# Altium footprint library DIP-OTHER 0607.pcblib: 24 footprints (part 2 of 2)
Each footprint in its own frame and in the unit in brackets; x right, y up, seen from the top. Pads: shape width x height; smd on the part's side, far side on the other; paste and mask are expansions set on the pad; w line width, h text height; cw(c..) or ccw(c..) is an arc to the next point about the centre after c.
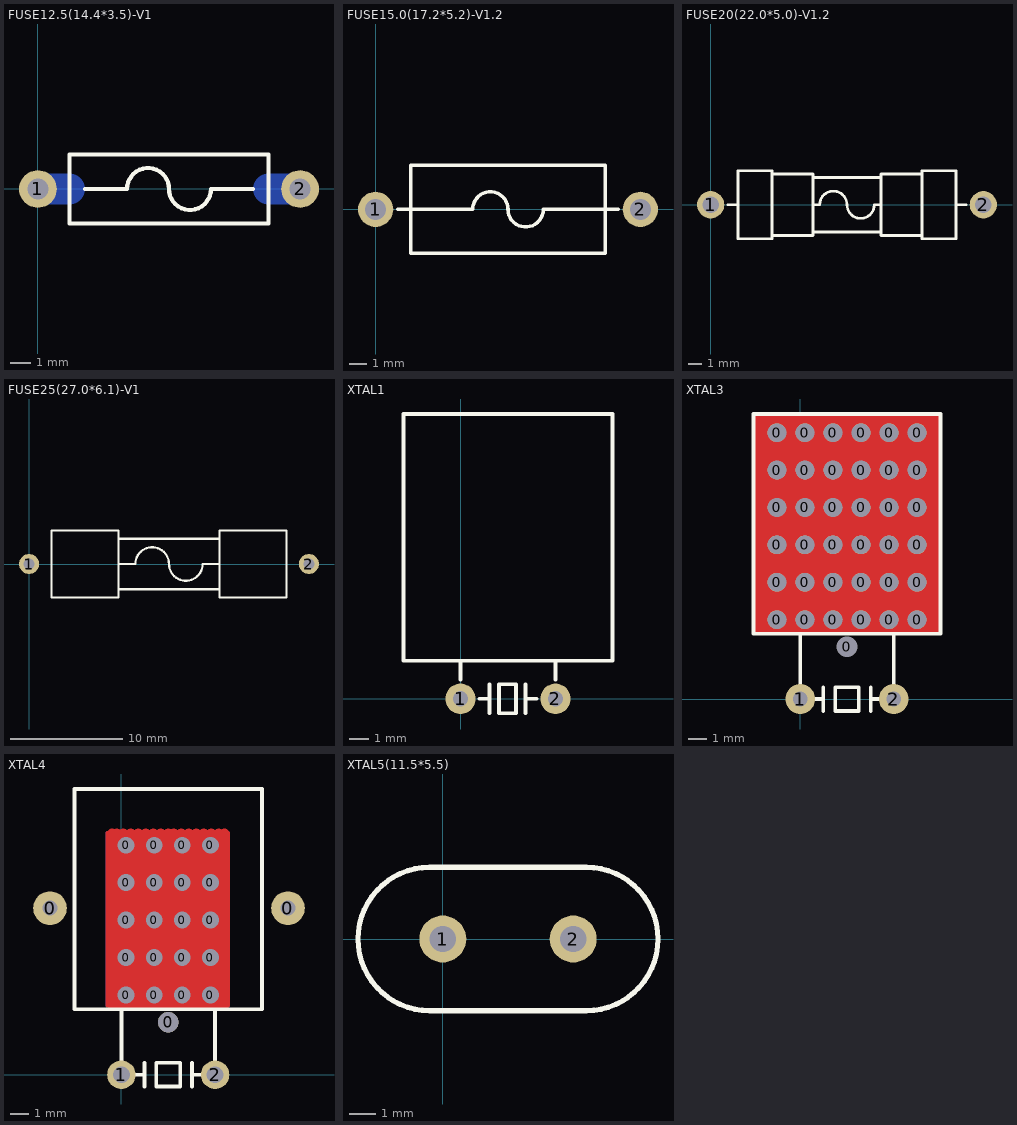
[diagram p1: the footprints below, top view; thin cyan lines are the x and y axes]

## FUSE12.5(14.4*3.5)-V1 [mm]
height 3.3
pads (2):
  round 1.8 hole 1: 1(0,0) 2(12.5,0)
Bottom Layer:
  lines w1.5: 0,0 1.5,0 ; 11,0 12.5,0
Top Overlay:
  lines w0.2: 2.25,0 4.25,0 cw(c5.25,0) 6.25,0 ccw(c7.25,0) 8.25,0 10.25,0 ; 1.5,-1.65 1.5,1.65 11,1.65 11,-1.65 1.5,-1.65
Bottom Solder:
  lines w1: 0,0 1.5,0 ; 11,0 12.5,0

## FUSE15.0(17.2*5.2)-V1.2 [mm]
height 5
pads (2):
  round 2 hole 1.2: 1(0,0) 2(15,0)
Top Overlay:
  lines w0.2: 1.25,0 2,0 5.5,0 cw(c6.5,0) 7.5,0 ccw(c8.5,0) 9.5,0 13,0 13.75,0 ; 2,-2.5 13,-2.5 13,2.5 2,2.5 2,-2.5

## FUSE20(22.0*5.0)-V1.2 [mm]
pads (2):
  round 2 hole 1.2: 1(0,0) 2(20,0)
Top Overlay:
  lines w0.2: 1.25,0 2,0 ; 7.5,0 8,0 cw(c9,0) 10,0 ccw(c11,0) 12,0 12.5,0 ; 18,0 18.75,0 ; 4.5,-2.25 4.5,2.25 ; 4.5,-2.25 7.5,-2.25 7.5,-2 ; 4.5,-2.25 4.5,-2.5 2,-2.5 2,2.5 4.5,2.5 4.5,2.25 ; 4.5,2.25 7.5,2.25 7.5,2 ; 7.5,-2 7.5,2 ; 7.5,-2 12.5,-2 ; 7.5,2 12.5,2 ; 12.5,-2 12.5,2 ; 12.5,-2 12.5,-2.25 15.5,-2.25 ; 12.5,2 12.5,2.25 15.5,2.25 ; 15.5,-2.25 15.5,2.25 ; 15.5,-2.25 15.5,-2.5 18,-2.5 18,2.5 15.5,2.5 15.5,2.25

## FUSE25(27.0*6.1)-V1 [mm]
height 6
pads (2):
  round 1.8 hole 1: 1(0,0) 2(25,0)
Top Overlay:
  lines w0.2: 8,-2.25 17,-2.25 ; 8,0 9.5,0 cw(c11,0) 12.5,0 ccw(c14,0) 15.5,0 17,0 ; 8,2.25 17,2.25 ; 2,-3 2,3 8,3 8,-3 2,-3 ; 17,-3 17,3 23,3 23,-3 17,-3

## XTAL1 [mm]
height 5
pads (2):
  round 1.6 hole 0.8: 1(0,0) 2(5,0)
Top Overlay:
  lines w0.2: 0,1 0,2 ; 1,0 1.524,0 ; 1.524,-0.762 1.524,0.762 ; 3.429,-0.762 3.429,0.762 ; 3.429,0 4,0 ; 5,1 5,2 ; -3,2 -3,15 8,15 8,2 -3,2 ; 2.032,-0.762 2.921,-0.762 2.921,0.762 2.032,0.762 2.032,-0.762

## XTAL3 [mm]
height 5
pads (39):
  round 1 hole 1: 0(-1.25,4.25) 0(-1.25,6.25) 0(-1.25,8.25) 0(-1.25,10.25) 0(-1.25,12.25) 0(-1.25,14.25) 0(0.25,14.25) 0(0.25,4.25) 0(0.25,6.25) 0(0.25,8.25) 0(0.25,10.25) 0(0.25,12.25) 0(1.75,4.25) 0(1.75,6.25) 0(1.75,8.25) 0(1.75,10.25) 0(1.75,12.25) 0(1.75,14.25) 0(3.25,4.25) 0(3.25,6.25) 0(3.25,8.25) 0(3.25,10.25) 0(3.25,12.25) 0(3.25,14.25) 0(4.75,4.25) 0(4.75,6.25) 0(4.75,8.25) 0(4.75,10.25) 0(4.75,12.25) 0(4.75,14.25) 0(6.25,4.25) 0(6.25,6.25) 0(6.25,8.25) 0(6.25,10.25) 0(6.25,12.25) 0(6.25,14.25)
  round 1 hole 1.1 unplated: 0(2.5,2.8)
  round 1.6 hole 0.8: 1(0,0) 2(5,0)
Top Layer:
  rectangle: -2.5,3.5 7.5,15.25
Bottom Layer:
  rectangle: -2.5,3.5 7.5,15.25
Top Overlay:
  lines w0.2: 0,0.75 0,3.5 ; 0.595,0 1.23,0 ; 1.23,-0.635 1.23,0.635 ; 3.77,-0.635 3.77,0.635 ; 3.77,0 4.405,0 ; 5,0.75 5,3.5 ; -2.5,3.5 7.5,3.5 7.5,15.25 -2.5,15.25 -2.5,3.5 ; 1.865,-0.635 3.135,-0.635 3.135,0.635 1.865,0.635 1.865,-0.635
Top Solder:
  rectangle: -2.5,3.5 7.5,15.25
Bottom Solder:
  rectangle: -2.5,3.5 7.5,15.25
Drill Drawing:
  lines w0.2: -1.95,2.25 cw(c-1.95,2.8) -1.95,3.35 6.95,3.35 cw(c6.95,2.8) 6.95,2.25 -1.95,2.25
  text "(1.1X10)" at -3,0.5 h1.2
  text "NPTH" at 4.25,0.5 h1.2

## XTAL4 [mm]
height 5
pads (25):
  round 1.8 hole 0.8: 0(-3.81,8.89) 0(8.89,8.89)
  round 0.8 hole 0.9: 0(0.25,4.25) 0(0.25,6.25) 0(0.25,8.25) 0(0.25,10.25) 0(0.25,12.25) 0(1.75,4.25) 0(1.75,6.25) 0(1.75,8.25) 0(1.75,10.25) 0(1.75,12.25) 0(3.25,4.25) 0(3.25,6.25) 0(3.25,8.25) 0(3.25,10.25) 0(3.25,12.25) 0(4.75,4.25) 0(4.75,6.25) 0(4.75,8.25) 0(4.75,10.25) 0(4.75,12.25)
  round 1.1 hole 1.1 unplated: 0(2.5,2.8)
  round 1.524 hole 0.9: 1(0,0) 2(5,0)
Top Layer:
  lines w0.2: -0.5,3.7 -0.75,3.7 -0.75,11.25 -0.75,12.9 -0.5,12.9 ; -0.5,3.7 -0.25,3.7 ; -0.5,3.7 -0.25,3.7 ; -0.5,3.7 -0.25,3.7 ; -0.5,3.7 -0.25,3.7 ; -0.5,3.7 -0.25,3.7 ; -0.5,3.7 -0.25,3.7 ; -0.5,3.7 -0.25,3.7 ; -0.5,3.7 -0.25,3.7 ; -0.5,3.7 -0.25,3.7 ; -0.5,3.7 -0.25,3.7 ; -0.5,3.7 -0.25,3.7 ; -0.5,3.7 -0.25,3.7 ; -0.5,3.7 -0.25,3.7 ; -0.5,3.7 -0.25,3.7 ; -0.5,3.7 -0.25,3.7 ; -0.5,3.7 -0.25,3.7 ; -0.5,3.7 -0.25,3.7 ; -0.5,3.7 -0.25,3.7 ; -0.5,3.7 -0.25,3.7 ; -0.5,3.7 -0.25,3.7 ; -0.5,3.7 -0.25,3.7 ; -0.5,3.7 -0.25,3.7 ; -0.5,3.7 -0.25,3.7 ; -0.5,3.7 -0.25,3.7 ; -0.5,3.7 -0.25,3.7 ; -0.5,3.7 -0.25,3.7 ; -0.5,3.7 -0.25,3.7 ; -0.5,3.7 -0.25,3.7 ; -0.5,3.7 -0.25,3.7 ; -0.5,3.7 -0.25,3.7 ; -0.5,3.7 -0.25,3.7 ; -0.5,12.9 -0.25,12.9 ; -0.5,12.9 -0.25,12.9 ; -0.5,12.9 -0.25,12.9 ; -0.5,12.9 -0.25,12.9 ; -0.5,12.9 -0.25,12.9 ; -0.5,12.9 -0.25,12.9 ; -0.5,12.9 -0.25,12.9 ; -0.5,12.9 -0.25,12.9 ; -0.5,12.9 -0.25,12.9 ; -0.5,12.9 -0.25,12.9 ; -0.5,12.9 -0.25,12.9 ; -0.5,12.9 -0.25,12.9 ; -0.5,12.9 -0.25,12.9 ; -0.5,12.9 -0.25,12.9 ; -0.5,12.9 -0.25,12.9 ; -0.5,12.9 -0.25,12.9 ; -0.5,12.9 -0.25,12.9 ; -0.5,12.9 -0.25,12.9 ; -0.5,12.9 -0.25,12.9 ; -0.5,12.9 -0.25,12.9 ; -0.5,12.9 -0.25,12.9 ; -0.5,12.9 -0.25,12.9 ; -0.5,12.9 -0.25,12.9 ; -0.5,12.9 -0.25,12.9 ; -0.5,12.9 -0.25,12.9 ; -0.5,12.9 -0.25,12.9 ; -0.5,12.9 -0.25,12.9 ; -0.5,12.9 -0.25,12.9 ; -0.5,12.9 -0.25,12.9 ; -0.5,12.9 -0.25,12.9 ; -0.5,12.9 -0.25,12.9 ; -0.25,3.7 0.1,3.7 ; -0.25,3.7 0.1,3.7 ; -0.25,3.7 0.1,3.7 ; -0.25,3.7 0.1,3.7 ; -0.25,3.7 0.1,3.7 ; -0.25,3.7 0.1,3.7 ; -0.25,3.7 0.1,3.7 ; -0.25,3.7 0.1,3.7 ; -0.25,3.7 0.1,3.7 ; -0.25,3.7 0.1,3.7 ; -0.25,3.7 0.1,3.7 ; -0.25,3.7 0.1,3.7 ; -0.25,3.7 0.1,3.7 ; -0.25,3.7 0.1,3.7 ; -0.25,3.7 0.1,3.7 ; -0.25,3.7 0.1,3.7 ; -0.25,3.7 0.1,3.7 ; -0.25,3.7 0.1,3.7 ; -0.25,3.7 0.1,3.7 ; -0.25,3.7 0.1,3.7 ; -0.25,3.7 0.1,3.7 ; -0.25,3.7 0.1,3.7 ; -0.25,3.7 0.1,3.7 ; -0.25,3.7 0.1,3.7 ; -0.25,3.7 0.1,3.7 ; -0.25,3.7 0.1,3.7 ; -0.25,3.7 0.1,3.7 ; -0.25,3.7 0.1,3.7 ; -0.25,3.7 0.1,3.7 ; -0.25,3.7 0.1,3.7 ; -0.25,3.7 0.1,3.7 ; -0.25,12.9 0.1,12.9 ; -0.25,12.9 0.1,12.9 ; -0.25,12.9 0.1,12.9 ; -0.25,12.9 0.1,12.9 ; -0.25,12.9 0.1,12.9 ; -0.25,12.9 0.1,12.9 ; -0.25,12.9 0.1,12.9 ; -0.25,12.9 0.1,12.9 ; -0.25,12.9 0.1,12.9 ; -0.25,12.9 0.1,12.9 ; -0.25,12.9 0.1,12.9 ; -0.25,12.9 0.1,12.9 ; -0.25,12.9 0.1,12.9 ; -0.25,12.9 0.1,12.9 ; -0.25,12.9 0.1,12.9 ; -0.25,12.9 0.1,12.9 ; -0.25,12.9 0.1,12.9 ; -0.25,12.9 0.1,12.9 ; -0.25,12.9 0.1,12.9 ; -0.25,12.9 0.1,12.9 ; -0.25,12.9 0.1,12.9 ; -0.25,12.9 0.1,12.9 ; -0.25,12.9 0.1,12.9 ; -0.25,12.9 0.1,12.9 ; -0.25,12.9 0.1,12.9 ; -0.25,12.9 0.1,12.9 ; -0.25,12.9 0.1,12.9 ; -0.25,12.9 0.1,12.9 ; -0.25,12.9 0.1,12.9 ; -0.25,12.9 0.1,12.9 ; -0.25,12.9 0.1,12.9 ; 0.1,3.7 0.5,3.7 0.9,3.7 1.3,3.7 1.7,3.7 2.1,3.7 2.5,3.7 ; 0.1,12.9 0.5,12.9 0.9,12.9 1.3,12.9 1.7,12.9 2.1,12.9 2.5,12.9 ; 2.5,3.7 2.8,3.7 ; 2.5,3.7 2.8,3.7 ; 2.5,3.7 2.8,3.7 ; 2.5,3.7 2.8,3.7 ; 2.5,3.7 2.8,3.7 ; 2.5,3.7 2.8,3.7 ; 2.5,3.7 2.8,3.7 ; 2.5,3.7 2.8,3.7 ; 2.5,3.7 2.8,3.7 ; 2.5,12.9 2.8,12.9 ; 2.5,12.9 2.8,12.9 ; 2.5,12.9 2.8,12.9 ; 2.5,12.9 2.8,12.9 ; 2.5,12.9 2.8,12.9 ; 2.5,12.9 2.8,12.9 ; 2.5,12.9 2.8,12.9 ; 2.5,12.9 2.8,12.9 ; 2.5,12.9 2.8,12.9 ; 2.8,3.7 3.2,3.7 3.6,3.7 4,3.7 4.4,3.7 4.8,3.7 5.2,3.7 ; 2.8,12.9 3.2,12.9 3.6,12.9 4,12.9 4.4,12.9 4.8,12.9 5.2,12.9 ; 5.2,3.7 5.5,3.7 ; 5.2,3.7 5.5,3.7 ; 5.2,3.7 5.5,3.7 ; 5.2,3.7 5.5,3.7 ; 5.2,3.7 5.5,3.7 ; 5.2,3.7 5.5,3.7 ; 5.2,3.7 5.5,3.7 ; 5.2,3.7 5.5,3.7 ; 5.2,3.7 5.5,3.7 ; 5.2,3.7 5.5,3.7 ; 5.2,3.7 5.5,3.7 ; 5.2,3.7 5.5,3.7 ; 5.2,3.7 5.5,3.7 ; 5.2,3.7 5.5,3.7 ; 5.2,3.7 5.5,3.7 ; 5.2,3.7 5.5,3.7 ; 5.2,3.7 5.5,3.7 ; 5.2,3.7 5.5,3.7 ; 5.2,3.7 5.5,3.7 ; 5.2,3.7 5.5,3.7 ; 5.2,3.7 5.5,3.7 ; 5.2,3.7 5.5,3.7 ; 5.2,3.7 5.5,3.7 ; 5.2,3.7 5.5,3.7 ; 5.2,12.9 5.5,12.9 ; 5.2,12.9 5.5,12.9 ; 5.2,12.9 5.5,12.9 ; 5.2,12.9 5.5,12.9 ; 5.2,12.9 5.5,12.9 ; 5.2,12.9 5.5,12.9 ; 5.2,12.9 5.5,12.9 ; 5.2,12.9 5.5,12.9 ; 5.2,12.9 5.5,12.9 ; 5.2,12.9 5.5,12.9 ; 5.2,12.9 5.5,12.9 ; 5.2,12.9 5.5,12.9 ; 5.2,12.9 5.5,12.9 ; 5.2,12.9 5.5,12.9 ; 5.2,12.9 5.5,12.9 ; 5.2,12.9 5.5,12.9 ; 5.2,12.9 5.5,12.9 ; 5.2,12.9 5.5,12.9 ; 5.2,12.9 5.5,12.9 ; 5.2,12.9 5.5,12.9 ; 5.2,12.9 5.5,12.9 ; 5.2,12.9 5.5,12.9 ; 5.2,12.9 5.5,12.9 ; 5.2,12.9 5.5,12.9 ; 5.5,3.7 5.7,3.7 ; 5.5,3.7 5.7,3.7 ; 5.5,3.7 5.7,3.7 ; 5.5,3.7 5.7,3.7 ; 5.5,3.7 5.7,3.7 ; 5.5,3.7 5.7,3.7 ; 5.5,3.7 5.7,3.7 ; 5.5,3.7 5.7,3.7 ; 5.5,3.7 5.7,3.7 ; 5.5,3.7 5.7,3.7 ; 5.5,3.7 5.7,3.7 ; 5.5,3.7 5.7,3.7 ; 5.5,3.7 5.7,3.7 ; 5.5,3.7 5.7,3.7 ; 5.5,3.7 5.7,3.7 ; 5.5,3.7 5.7,3.7 ; 5.5,3.7 5.7,3.7 ; 5.5,3.7 5.7,3.7 ; 5.5,3.7 5.7,3.7 ; 5.5,3.7 5.7,3.7 ; 5.5,3.7 5.7,3.7 ; 5.5,3.7 5.7,3.7 ; 5.5,3.7 5.7,3.7 ; 5.5,12.9 5.7,12.9 ; 5.5,12.9 5.7,12.9 ; 5.5,12.9 5.7,12.9 ; 5.5,12.9 5.7,12.9 ; 5.5,12.9 5.7,12.9 ; 5.5,12.9 5.7,12.9 ; 5.5,12.9 5.7,12.9 ; 5.5,12.9 5.7,12.9 ; 5.5,12.9 5.7,12.9 ; 5.5,12.9 5.7,12.9 ; 5.5,12.9 5.7,12.9 ; 5.5,12.9 5.7,12.9 ; 5.5,12.9 5.7,12.9 ; 5.5,12.9 5.7,12.9 ; 5.5,12.9 5.7,12.9 ; 5.5,12.9 5.7,12.9 ; 5.5,12.9 5.7,12.9 ; 5.5,12.9 5.7,12.9 ; 5.5,12.9 5.7,12.9 ; 5.5,12.9 5.7,12.9 ; 5.5,12.9 5.7,12.9 ; 5.5,12.9 5.7,12.9 ; 5.5,12.9 5.7,12.9 ; 5.7,3.7 5.7,11.25 5.7,12.9
  lines w0.5: -0.5,3.7 -0.5,4 ; -0.5,3.7 -0.5,4 ; -0.5,3.7 -0.5,4 ; -0.5,3.7 -0.5,4 ; -0.5,3.7 -0.5,4 ; -0.5,4 -0.5,11.25 -0.5,12.75 ; -0.5,12.75 -0.5,12.9 ; -0.5,12.75 -0.5,12.9 ; -0.5,12.75 -0.5,12.9 ; -0.5,12.75 -0.5,12.9 ; -0.5,12.75 -0.5,12.9 ; -0.25,3.7 -0.25,4 ; -0.25,3.7 -0.25,4 ; -0.25,3.7 -0.25,4 ; -0.25,3.7 -0.25,4 ; -0.25,3.7 -0.25,4 ; -0.25,3.7 -0.25,4 ; -0.25,3.7 -0.25,4 ; -0.25,3.7 -0.25,4 ; -0.25,3.7 -0.25,4 ; -0.25,3.7 -0.25,4 ; -0.25,3.7 -0.25,4 ; -0.25,3.7 -0.25,4 ; -0.25,3.7 -0.25,4 ; -0.25,3.7 -0.25,4 ; -0.25,3.7 -0.25,4 ; -0.25,3.7 -0.25,4 ; -0.25,4 -0.25,4.25 -0.25,6.25 -0.25,8.25 -0.25,10.25 -0.25,11.25 -0.25,12.25 ; -0.25,12.25 -0.25,12.5 ; -0.25,12.25 -0.25,12.5 ; -0.25,12.25 -0.25,12.5 ; -0.25,12.25 -0.25,12.5 ; -0.25,12.25 -0.25,12.75 ; -0.25,12.5 -0.25,12.75 ; -0.25,12.5 -0.25,12.75 ; -0.25,12.5 -0.25,12.75 ; -0.25,12.5 -0.25,12.75 ; -0.25,12.5 -0.25,12.75 ; -0.25,12.5 -0.25,12.75 ; -0.25,12.5 -0.25,12.75 ; -0.25,12.5 -0.25,12.75 ; -0.25,12.5 -0.25,12.75 ; -0.25,12.5 -0.25,12.75 ; -0.25,12.5 -0.25,12.75 ; -0.25,12.5 -0.25,12.75 ; -0.25,12.5 -0.25,12.75 ; -0.25,12.5 -0.25,12.75 ; -0.25,12.5 -0.25,12.75 ; -0.25,12.75 -0.25,12.9 ; -0.25,12.75 -0.25,12.9 ; -0.25,12.75 -0.25,12.9 ; -0.25,12.75 -0.25,12.9 ; -0.25,12.75 -0.25,12.9 ; -0.25,12.75 -0.25,12.9 ; -0.25,12.75 -0.25,12.9 ; -0.25,12.75 -0.25,12.9 ; -0.25,12.75 -0.25,12.9 ; -0.25,12.75 -0.25,12.9 ; -0.25,12.75 -0.25,12.9 ; -0.25,12.75 -0.25,12.9 ; -0.25,12.75 -0.25,12.9 ; -0.25,12.75 -0.25,12.9 ; -0.25,12.75 -0.25,12.9 ; -0.25,12.75 -0.25,12.9 ; 0.1,3.7 0.1,3.9 ; 0.1,3.7 0.1,3.9 ; 0.1,3.7 0.1,3.9 ; 0.1,3.7 0.1,3.9 ; 0.1,3.7 0.1,3.9 ; 0.1,3.9 0.1,6.25 0.1,8.25 0.1,10.25 0.1,11.25 0.1,12.7 ; 0.1,12.7 0.1,12.9 ; 0.1,12.7 0.1,12.9 ; 0.1,12.7 0.1,12.9 ; 0.1,12.7 0.1,12.9 ; 0.1,12.7 0.1,12.9 ; 0.5,3.7 0.5,3.9 ; 0.5,3.7 0.5,3.9 ; 0.5,3.7 0.5,3.9 ; 0.5,3.7 0.5,3.9 ; 0.5,3.7 0.5,3.9 ; 0.5,3.9 0.5,6.25 0.5,8.25 0.5,10.25 0.5,11.25 0.5,12.25 ; 0.5,12.25 0.5,12.45 ; 0.5,12.25 0.5,12.45 ; 0.5,12.25 0.5,12.45 ; 0.5,12.25 0.5,12.7 ; 0.5,12.5 0.5,12.7 ; 0.5,12.5 0.5,12.7 ; 0.5,12.5 0.5,12.7 ; 0.5,12.5 0.5,12.7 ; 0.5,12.5 0.5,12.7 ; 0.5,12.5 0.5,12.7 ; 0.5,12.5 0.5,12.7 ; 0.5,12.5 0.5,12.7 ; 0.5,12.5 0.5,12.7 ; 0.5,12.5 0.5,12.7 ; 0.5,12.5 0.5,12.7 ; 0.5,12.7 0.5,12.9 ; 0.5,12.7 0.5,12.9 ; 0.5,12.7 0.5,12.9 ; 0.5,12.7 0.5,12.9 ; 0.5,12.7 0.5,12.9 ; 0.5,12.7 0.5,12.9 ; 0.5,12.7 0.5,12.9 ; 0.5,12.7 0.5,12.9 ; 0.5,12.7 0.5,12.9 ; 0.5,12.7 0.5,12.9 ; 0.5,12.7 0.5,12.9 ; 0.5,12.7 0.5,12.9 ; 0.9,3.7 0.9,3.9 ; 0.9,3.7 0.9,3.9 ; 0.9,3.7 0.9,3.9 ; 0.9,3.7 0.9,3.9 ; 0.9,3.7 0.9,3.9 ; 0.9,3.7 0.9,3.9 ; 0.9,3.7 0.9,3.9 ; 0.9,3.7 0.9,3.9 ; 0.9,3.7 0.9,3.9 ; 0.9,3.7 0.9,3.9 ; 0.9,3.7 0.9,3.9 ; 0.9,3.7 0.9,3.9 ; 0.9,3.7 0.9,3.9 ; 0.9,3.7 0.9,3.9 ; 0.9,3.7 0.9,3.9 ; 0.9,3.7 0.9,3.9 ; 0.9,3.9 0.9,4 ; 0.9,3.9 0.9,4 ; 0.9,3.9 0.9,4 ; 0.9,3.9 0.9,4 ; 0.9,3.9 0.9,4 ; 0.9,3.9 0.9,4 ; 0.9,3.9 0.9,4 ; 0.9,3.9 0.9,4 ; 0.9,3.9 0.9,4 ; 0.9,3.9 0.9,4 ; 0.9,3.9 0.9,4 ; 0.9,3.9 0.9,4 ; 0.9,3.9 0.9,4 ; 0.9,3.9 0.9,4 ; 0.9,3.9 0.9,4 ; 0.9,3.9 0.9,4.25 ; 0.9,4.15 0.9,4.25 ; 0.9,4.15 0.9,4.25 ; 0.9,4.15 0.9,4.25 ; 0.9,4.15 0.9,4.25 ; 0.9,4.25 0.9,6.25 0.9,8.25 0.9,10.25 0.9,11.25 0.9,12.25 ; 0.9,12.25 0.9,12.45 ; 0.9,12.25 0.9,12.45 ; 0.9,12.25 0.9,12.45 ; 0.9,12.25 0.9,12.45 ; 0.9,12.25 0.9,12.7 ; 0.9,12.5 0.9,12.7 ; 0.9,12.5 0.9,12.7 ; 0.9,12.5 0.9,12.7 ; 0.9,12.5 0.9,12.7 ; 0.9,12.5 0.9,12.7 ; 0.9,12.5 0.9,12.7 ; 0.9,12.5 0.9,12.7 ; 0.9,12.5 0.9,12.7 ; 0.9,12.5 0.9,12.7 ; 0.9,12.5 0.9,12.7 ; 0.9,12.5 0.9,12.7 ; 0.9,12.5 0.9,12.7 ; 0.9,12.5 0.9,12.7 ; 0.9,12.5 0.9,12.7 ; 0.9,12.5 0.9,12.7 ; 0.9,12.7 0.9,12.9 ; 0.9,12.7 0.9,12.9 ; 0.9,12.7 0.9,12.9 ; 0.9,12.7 0.9,12.9 ; 0.9,12.7 0.9,12.9 ; 0.9,12.7 0.9,12.9 ; 0.9,12.7 0.9,12.9 ; 0.9,12.7 0.9,12.9 ; 0.9,12.7 0.9,12.9 ; 0.9,12.7 0.9,12.9 ; 0.9,12.7 0.9,12.9 ; 0.9,12.7 0.9,12.9 ; 0.9,12.7 0.9,12.9 ; 0.9,12.7 0.9,12.9 ; 0.9,12.7 0.9,12.9 ; 0.9,12.7 0.9,12.9 ; 1.3,3.7 1.3,3.9 ; 1.3,3.7 1.3,3.9 ; 1.3,3.7 1.3,3.9 ; 1.3,3.7 1.3,3.9 ; 1.3,3.7 1.3,3.9 ; 1.3,3.7 1.3,3.9 ; 1.3,3.7 1.3,3.9 ; 1.3,3.7 1.3,3.9 ; 1.3,3.7 1.3,3.9 ; 1.3,3.7 1.3,3.9 ; 1.3,3.7 1.3,3.9 ; 1.3,3.7 1.3,3.9 ; 1.3,3.7 1.3,3.9 ; 1.3,3.7 1.3,3.9 ; 1.3,3.7 1.3,3.9 ; 1.3,3.7 1.3,3.9 ; 1.3,3.9 1.3,4 ; 1.3,3.9 1.3,4 ; 1.3,3.9 1.3,4 ; 1.3,3.9 1.3,4 ; 1.3,3.9 1.3,4 ; 1.3,3.9 1.3,4 ; 1.3,3.9 1.3,4 ; 1.3,3.9 1.3,4 ; 1.3,3.9 1.3,4 ; 1.3,3.9 1.3,4 ; 1.3,3.9 1.3,4 ; 1.3,3.9 1.3,4 ; 1.3,3.9 1.3,4 ; 1.3,3.9 1.3,4 ; 1.3,3.9 1.3,4 ; 1.3,3.9 1.3,4.25 ; 1.3,4.15 1.3,4.25 ; 1.3,4.15 1.3,4.25 ; 1.3,4.15 1.3,4.25 ; 1.3,4.15 1.3,4.25 ; 1.3,4.25 1.3,6.25 1.3,8.25 1.3,10.25 1.3,11.25 1.3,12.25 ; 1.3,12.25 1.3,12.45 ; 1.3,12.25 1.3,12.45 ; 1.3,12.25 1.3,12.45 ; 1.3,12.25 1.3,12.45 ; 1.3,12.25 1.3,12.7 ; 1.3,12.5 1.3,12.7 ; 1.3,12.5 1.3,12.7 ; 1.3,12.5 1.3,12.7 ; 1.3,12.5 1.3,12.7 ; 1.3,12.5 1.3,12.7 ; 1.3,12.5 1.3,12.7 ; 1.3,12.5 1.3,12.7 ; 1.3,12.5 1.3,12.7 ; 1.3,12.5 1.3,12.7 ; 1.3,12.5 1.3,12.7 ; 1.3,12.5 1.3,12.7 ; 1.3,12.5 1.3,12.7 ; 1.3,12.5 1.3,12.7 ; 1.3,12.5 1.3,12.7 ; 1.3,12.5 1.3,12.7 ; 1.3,12.7 1.3,12.9 ; 1.3,12.7 1.3,12.9 ; 1.3,12.7 1.3,12.9 ; 1.3,12.7 1.3,12.9 ; 1.3,12.7 1.3,12.9 ; 1.3,12.7 1.3,12.9 ; 1.3,12.7 1.3,12.9 ; 1.3,12.7 1.3,12.9 ; 1.3,12.7 1.3,12.9 ; 1.3,12.7 1.3,12.9 ; 1.3,12.7 1.3,12.9 ; 1.3,12.7 1.3,12.9 ; 1.3,12.7 1.3,12.9 ; 1.3,12.7 1.3,12.9 ; 1.3,12.7 1.3,12.9 ; 1.3,12.7 1.3,12.9 ; 1.7,3.7 1.7,3.9 ; 1.7,3.7 1.7,3.9 ; 1.7,3.7 1.7,3.9 ; 1.7,3.7 1.7,3.9 ; 1.7,3.7 1.7,3.9 ; 1.7,3.9 1.7,6.25 1.7,8.25 1.7,10.25 1.7,11.25 1.7,12.7 ; 1.7,12.7 1.7,12.9 ; 1.7,12.7 1.7,12.9 ; 1.7,12.7 1.7,12.9 ; 1.7,12.7 1.7,12.9 ; 1.7,12.7 1.7,12.9 ; 2.1,3.7 2.1,3.9 ; 2.1,3.7 2.1,3.9 ; 2.1,3.7 2.1,3.9 ; 2.1,3.7 2.1,3.9 ; 2.1,3.7 2.1,3.9 ; 2.1,3.9 2.1,6.25 2.1,8.25 2.1,10.25 2.1,11.25 2.1,12.25 ; 2.1,12.25 2.1,12.45 ; 2.1,12.25 2.1,12.45 ; 2.1,12.25 2.1,12.45 ; 2.1,12.25 2.1,12.45 ; 2.1,12.25 2.1,12.7 ; 2.1,12.5 2.1,12.7 ; 2.1,12.5 2.1,12.7 ; 2.1,12.5 2.1,12.7 ; 2.1,12.5 2.1,12.7 ; 2.1,12.5 2.1,12.7 ; 2.1,12.5 2.1,12.7 ; 2.1,12.5 2.1,12.7 ; 2.1,12.5 2.1,12.7 ; 2.1,12.5 2.1,12.7 ; 2.1,12.5 2.1,12.7 ; 2.1,12.5 2.1,12.7 ; 2.1,12.5 2.1,12.7 ; 2.1,12.5 2.1,12.7 ; 2.1,12.5 2.1,12.7 ; 2.1,12.5 2.1,12.7 ; 2.1,12.7 2.1,12.9 ; 2.1,12.7 2.1,12.9 ; 2.1,12.7 2.1,12.9 ; 2.1,12.7 2.1,12.9 ; 2.1,12.7 2.1,12.9 ; 2.1,12.7 2.1,12.9 ; 2.1,12.7 2.1,12.9 ; 2.1,12.7 2.1,12.9 ; 2.1,12.7 2.1,12.9 ; 2.1,12.7 2.1,12.9 ; 2.1,12.7 2.1,12.9 ; 2.1,12.7 2.1,12.9 ; 2.1,12.7 2.1,12.9 ; 2.1,12.7 2.1,12.9 ; 2.1,12.7 2.1,12.9 ; 2.1,12.7 2.1,12.9 ; 2.5,3.7 2.5,3.9 ; 2.5,3.7 2.5,3.9 ; 2.5,3.7 2.5,3.9 ; 2.5,3.7 2.5,3.9 ; 2.5,3.7 2.5,3.9 ; 2.5,3.9 2.5,11.25 2.5,12.7 ; 2.5,12.7 2.5,12.9 ; 2.5,12.7 2.5,12.9 ; 2.5,12.7 2.5,12.9 ; 2.5,12.7 2.5,12.9 ; 2.5,12.7 2.5,12.9 ; 2.8,3.7 2.8,3.9 ; 2.8,3.7 2.8,3.9 ; 2.8,3.7 2.8,3.9 ; 2.8,3.7 2.8,3.9 ; 2.8,3.7 2.8,3.9 ; 2.8,3.7 2.8,3.9 ; 2.8,3.7 2.8,3.9 ; 2.8,3.7 2.8,3.9 ; 2.8,3.7 2.8,3.9 ; 2.8,3.7 2.8,3.9 ; 2.8,3.7 2.8,3.9 ; 2.8,3.7 2.8,3.9 ; 2.8,3.7 2.8,3.9 ; 2.8,3.7 2.8,3.9 ; 2.8,3.7 2.8,3.9 ; 2.8,3.7 2.8,3.9 ; 2.8,3.9 2.8,4 ; 2.8,3.9 2.8,4 ; 2.8,3.9 2.8,4 ; 2.8,3.9 2.8,4 ; 2.8,3.9 2.8,4 ; 2.8,3.9 2.8,4 ; 2.8,3.9 2.8,4 ; 2.8,3.9 2.8,4 ; 2.8,3.9 2.8,4 ; 2.8,3.9 2.8,4 ; 2.8,3.9 2.8,4 ; 2.8,3.9 2.8,4 ; 2.8,3.9 2.8,4 ; 2.8,3.9 2.8,4 ; 2.8,3.9 2.8,4 ; 2.8,3.9 2.8,4.25 ; 2.8,4.15 2.8,4.25 ; 2.8,4.15 2.8,4.25 ; 2.8,4.15 2.8,4.25 ; 2.8,4.15 2.8,4.25 ; 2.8,4.25 2.8,6.25 2.8,8.25 2.8,10.25 2.8,11.25 2.8,12.25 ; 2.8,12.25 2.8,12.45 ; 2.8,12.25 2.8,12.45 ; 2.8,12.25 2.8,12.45 ; 2.8,12.25 2.8,12.45 ; 2.8,12.25 2.8,12.7 ; 2.8,12.5 2.8,12.7 ; 2.8,12.5 2.8,12.7 ; 2.8,12.5 2.8,12.7 ; 2.8,12.5 2.8,12.7 ; 2.8,12.5 2.8,12.7 ; 2.8,12.5 2.8,12.7 ; 2.8,12.5 2.8,12.7 ; 2.8,12.5 2.8,12.7 ; 2.8,12.5 2.8,12.7 ; 2.8,12.5 2.8,12.7 ; 2.8,12.5 2.8,12.7 ; 2.8,12.5 2.8,12.7 ; 2.8,12.5 2.8,12.7 ; 2.8,12.5 2.8,12.7 ; 2.8,12.5 2.8,12.7 ; 2.8,12.7 2.8,12.9 ; 2.8,12.7 2.8,12.9 ; 2.8,12.7 2.8,12.9 ; 2.8,12.7 2.8,12.9 ; 2.8,12.7 2.8,12.9 ; 2.8,12.7 2.8,12.9 ; 2.8,12.7 2.8,12.9 ; 2.8,12.7 2.8,12.9 ; 2.8,12.7 2.8,12.9 ; 2.8,12.7 2.8,12.9 ; 2.8,12.7 2.8,12.9 ; 2.8,12.7 2.8,12.9 ; 2.8,12.7 2.8,12.9 ; 2.8,12.7 2.8,12.9 ; 2.8,12.7 2.8,12.9 ; 2.8,12.7 2.8,12.9 ; 3.2,3.7 3.2,3.9 ; 3.2,3.7 3.2,3.9 ; 3.2,3.7 3.2,3.9 ; 3.2,3.7 3.2,3.9 ; 3.2,3.7 3.2,3.9 ; 3.2,3.9 3.2,6.25 3.2,8.25 3.2,10.25 3.2,11.25 3.2,12.7 ; 3.2,12.7 3.2,12.9 ; 3.2,12.7 3.2,12.9 ; 3.2,12.7 3.2,12.9 ; 3.2,12.7 3.2,12.9 ; 3.2,12.7 3.2,12.9 ; 3.6,3.7 3.6,3.9 ; 3.6,3.7 3.6,3.9 ; 3.6,3.7 3.6,3.9 ; 3.6,3.7 3.6,3.9 ; 3.6,3.7 3.6,3.9 ; 3.6,3.9 3.6,6.25 3.6,8.25 3.6,10.25 3.6,11.25 3.6,12.25 ; 3.6,12.25 3.6,12.45 ; 3.6,12.25 3.6,12.45 ; 3.6,12.25 3.6,12.45 ; 3.6,12.25 3.6,12.45 ; 3.6,12.25 3.6,12.7 ; 3.6,12.5 3.6,12.7 ; 3.6,12.5 3.6,12.7 ; 3.6,12.5 3.6,12.7 ; 3.6,12.5 3.6,12.7 ; 3.6,12.5 3.6,12.7 ; 3.6,12.5 3.6,12.7 ; 3.6,12.5 3.6,12.7 ; 3.6,12.5 3.6,12.7 ; 3.6,12.5 3.6,12.7 ; 3.6,12.5 3.6,12.7 ; 3.6,12.5 3.6,12.7 ; 3.6,12.5 3.6,12.7 ; 3.6,12.5 3.6,12.7 ; 3.6,12.5 3.6,12.7 ; 3.6,12.5 3.6,12.7 ; 3.6,12.7 3.6,12.9 ; 3.6,12.7 3.6,12.9 ; 3.6,12.7 3.6,12.9 ; 3.6,12.7 3.6,12.9 ; 3.6,12.7 3.6,12.9 ; 3.6,12.7 3.6,12.9 ; 3.6,12.7 3.6,12.9 ; 3.6,12.7 3.6,12.9 ; 3.6,12.7 3.6,12.9 ; 3.6,12.7 3.6,12.9 ; 3.6,12.7 3.6,12.9 ; 3.6,12.7 3.6,12.9 ; 3.6,12.7 3.6,12.9 ; 3.6,12.7 3.6,12.9 ; 3.6,12.7 3.6,12.9 ; 3.6,12.7 3.6,12.9 ; 4,3.7 4,3.9 ; 4,3.7 4,3.9 ; 4,3.7 4,3.9 ; 4,3.7 4,3.9 ; 4,3.7 4,3.9 ; 4,3.9 4,11.25 4,12.7 ; 4,12.7 4,12.9 ; 4,12.7 4,12.9 ; 4,12.7 4,12.9 ; 4,12.7 4,12.9 ; 4,12.7 4,12.9 ; 4.4,3.7 4.4,3.9 ; 4.4,3.7 4.4,3.9 ; 4.4,3.7 4.4,3.9 ; 4.4,3.7 4.4,3.9 ; 4.4,3.7 4.4,3.9 ; 4.4,3.9 4.4,6.25 4.4,8.25 4.4,10.25 4.4,11.25 4.4,12.25 ; 4.4,12.25 4.4,12.45 ; 4.4,12.25 4.4,12.45 ; 4.4,12.25 4.4,12.45 ; 4.4,12.25 4.4,12.45 ; 4.4,12.25 4.4,12.7 ; 4.4,12.5 4.4,12.7 ; 4.4,12.5 4.4,12.7 ; 4.4,12.5 4.4,12.7 ; 4.4,12.5 4.4,12.7 ; 4.4,12.5 4.4,12.7 ; 4.4,12.5 4.4,12.7 ; 4.4,12.5 4.4,12.7 ; 4.4,12.5 4.4,12.7 ; 4.4,12.5 4.4,12.7 ; 4.4,12.5 4.4,12.7 ; 4.4,12.5 4.4,12.7 ; 4.4,12.5 4.4,12.7 ; 4.4,12.5 4.4,12.7 ; 4.4,12.5 4.4,12.7 ; 4.4,12.5 4.4,12.7 ; 4.4,12.7 4.4,12.9 ; 4.4,12.7 4.4,12.9 ; 4.4,12.7 4.4,12.9 ; 4.4,12.7 4.4,12.9 ; 4.4,12.7 4.4,12.9 ; 4.4,12.7 4.4,12.9 ; 4.4,12.7 4.4,12.9 ; 4.4,12.7 4.4,12.9 ; 4.4,12.7 4.4,12.9 ; 4.4,12.7 4.4,12.9 ; 4.4,12.7 4.4,12.9 ; 4.4,12.7 4.4,12.9 ; 4.4,12.7 4.4,12.9 ; 4.4,12.7 4.4,12.9 ; 4.4,12.7 4.4,12.9 ; 4.4,12.7 4.4,12.9 ; 4.8,3.7 4.8,3.9 ; 4.8,3.7 4.8,3.9 ; 4.8,3.7 4.8,3.9 ; 4.8,3.7 4.8,3.9 ; 4.8,3.7 4.8,3.9 ; 4.8,3.9 4.8,6.25 4.8,8.25 4.8,10.25 4.8,11.25 4.8,12.7 ; 4.8,12.7 4.8,12.9 ; 4.8,12.7 4.8,12.9 ; 4.8,12.7 4.8,12.9 ; 4.8,12.7 4.8,12.9 ; 4.8,12.7 4.8,12.9 ; 5.2,3.7 5.2,3.9 ; 5.2,3.7 5.2,3.9 ; 5.2,3.7 5.2,3.9 ; 5.2,3.7 5.2,3.9 ; 5.2,3.7 5.2,3.9 ; 5.2,3.7 5.2,3.9 ; 5.2,3.7 5.2,3.9 ; 5.2,3.7 5.2,3.9 ; 5.2,3.7 5.2,3.9 ; 5.2,3.7 5.2,3.9 ; 5.2,3.7 5.2,3.9 ; 5.2,3.7 5.2,3.9 ; 5.2,3.7 5.2,3.9 ; 5.2,3.7 5.2,3.9 ; 5.2,3.7 5.2,3.9 ; 5.2,3.7 5.2,3.9 ; 5.2,3.9 5.2,4 ; 5.2,3.9 5.2,4 ; 5.2,3.9 5.2,4 ; 5.2,3.9 5.2,4 ; 5.2,3.9 5.2,4 ; 5.2,3.9 5.2,4 ; 5.2,3.9 5.2,4 ; 5.2,3.9 5.2,4 ; 5.2,3.9 5.2,4 ; 5.2,3.9 5.2,4 ; 5.2,3.9 5.2,4 ; 5.2,3.9 5.2,4 ; 5.2,3.9 5.2,4 ; 5.2,3.9 5.2,4 ; 5.2,3.9 5.2,4 ; 5.2,3.9 5.2,4.25 ; 5.2,4.15 5.2,4.25 ; 5.2,4.15 5.2,4.25 ; 5.2,4.15 5.2,4.25 ; 5.2,4.15 5.2,4.25 ; 5.2,4.25 5.2,6.25 5.2,8.25 5.2,10.25 5.2,11.25 5.2,12.25 ; 5.2,12.25 5.2,12.45 ; 5.2,12.25 5.2,12.45 ; 5.2,12.25 5.2,12.45 ; 5.2,12.25 5.2,12.45 ; 5.2,12.25 5.2,12.7 ; 5.2,12.5 5.2,12.7 ; 5.2,12.5 5.2,12.7 ; 5.2,12.5 5.2,12.7 ; 5.2,12.5 5.2,12.7 ; 5.2,12.5 5.2,12.7 ; 5.2,12.5 5.2,12.7 ; 5.2,12.5 5.2,12.7 ; 5.2,12.5 5.2,12.7 ; 5.2,12.5 5.2,12.7 ; 5.2,12.5 5.2,12.7 ; 5.2,12.5 5.2,12.7 ; 5.2,12.5 5.2,12.7 ; 5.2,12.5 5.2,12.7 ; 5.2,12.5 5.2,12.7 ; 5.2,12.5 5.2,12.7 ; 5.2,12.7 5.2,12.9 ; 5.2,12.7 5.2,12.9 ; 5.2,12.7 5.2,12.9 ; 5.2,12.7 5.2,12.9 ; 5.2,12.7 5.2,12.9 ; 5.2,12.7 5.2,12.9 ; 5.2,12.7 5.2,12.9 ; 5.2,12.7 5.2,12.9 ; 5.2,12.7 5.2,12.9 ; 5.2,12.7 5.2,12.9 ; 5.2,12.7 5.2,12.9 ; 5.2,12.7 5.2,12.9 ; 5.2,12.7 5.2,12.9 ; 5.2,12.7 5.2,12.9 ; 5.2,12.7 5.2,12.9 ; 5.2,12.7 5.2,12.9 ; 5.5,3.7 5.5,3.9 ; 5.5,3.7 5.5,3.9 ; 5.5,3.7 5.5,3.9 ; 5.5,3.7 5.5,3.9 ; 5.5,3.7 5.5,3.9 ; 5.5,3.9 5.5,11.25 5.5,12.7 ; 5.5,12.7 5.5,12.9 ; 5.5,12.7 5.5,12.9 ; 5.5,12.7 5.5,12.9 ; 5.5,12.7 5.5,12.9 ; 5.5,12.7 5.5,12.9
Bottom Layer:
  lines w0.2: -0.75,3.7 5.7,3.7 5.7,12.9 -0.75,12.9 -0.75,3.7
  lines w0.5: -0.5,4 -0.5,12.75 ; -0.25,4 -0.25,12.75 ; 0.1,3.9 0.1,12.7 ; 0.5,3.9 0.5,12.7 ; 0.9,3.9 0.9,12.7 ; 1.3,3.9 1.3,12.7 ; 1.7,3.9 1.7,12.7 ; 2.1,3.9 2.1,12.7 ; 2.5,3.9 2.5,12.7 ; 2.8,3.9 2.8,12.7 ; 3.2,3.9 3.2,12.7 ; 3.6,3.9 3.6,12.7 ; 4,3.9 4,12.7 ; 4.4,3.9 4.4,12.7 ; 4.8,3.9 4.8,12.7 ; 5.2,3.9 5.2,12.7 ; 5.5,3.9 5.5,12.7
Top Overlay:
  lines w0.2: 0,0.75 0,3.5 ; 0.595,0 1.23,0 ; 1.23,-0.635 1.23,0.635 ; 3.77,-0.635 3.77,0.635 ; 3.77,0 4.405,0 ; 5,0.75 5,3.5 ; -2.5,3.5 -2.5,15.25 7.5,15.25 7.5,3.5 -2.5,3.5 ; 1.865,-0.635 1.865,0.635 3.135,0.635 3.135,-0.635 1.865,-0.635
Top Solder:
  lines w0.2: -0.75,3.7 -0.75,12.9 5.7,12.9 5.7,3.7 -0.75,3.7
  lines w0.5: -0.5,4 -0.5,12.75 ; -0.25,4 -0.25,12.75 ; 0.1,3.9 0.1,12.7 ; 0.5,3.9 0.5,12.7 ; 0.9,3.9 0.9,12.7 ; 1.3,3.9 1.3,12.7 ; 1.7,3.9 1.7,12.7 ; 2.1,3.9 2.1,12.7 ; 2.5,3.9 2.5,12.7 ; 2.8,3.9 2.8,12.7 ; 3.2,3.9 3.2,12.7 ; 3.6,3.9 3.6,12.7 ; 4,3.9 4,12.7 ; 4.4,3.9 4.4,12.7 ; 4.8,3.9 4.8,12.7 ; 5.2,3.9 5.2,12.7 ; 5.5,3.9 5.5,12.7
Bottom Solder:
  lines w0.2: -0.75,3.7 -0.75,12.9 5.7,12.9 5.7,3.7 -0.75,3.7
  lines w0.5: -0.5,4 -0.5,12.75 ; -0.25,4 -0.25,12.75 ; 0.1,3.9 0.1,12.7 ; 0.5,3.9 0.5,12.7 ; 0.9,3.9 0.9,12.7 ; 1.3,3.9 1.3,12.7 ; 1.7,3.9 1.7,12.7 ; 2.1,3.9 2.1,12.7 ; 2.5,3.9 2.5,12.7 ; 2.8,3.9 2.8,12.7 ; 3.2,3.9 3.2,12.7 ; 3.6,3.9 3.6,12.7 ; 4,3.9 4,12.7 ; 4.4,3.9 4.4,12.7 ; 4.8,3.9 4.8,12.7 ; 5.2,3.9 5.2,12.7 ; 5.5,3.9 5.5,12.7
Drill Drawing:
  lines w0.2: -1.95,2.25 cw(c-1.95,2.8) -1.95,3.35 6.95,3.35 cw(c6.95,2.8) 6.95,2.25 -1.95,2.25
  text "(1.1*10)mm" at -2,0.75 h1.2

## XTAL5(11.5*5.5) [mm]
height 13.5
pads (2):
  round 1.8 hole 1: 1(0,0) 2(5,0)
Top Overlay:
  lines w0.2: -0.5,-2.75 cw(c-0.5,0) -0.5,2.75 5.5,2.75 cw(c5.5,0) 5.5,-2.75 -0.5,-2.75